# EAGLE library part RMLV0816BGSB-4S2#AA0 (library SamacSys_Parts)
The RMLV0816BGSB is a family of 8-Mbit static RAMs organized 524, 288-word 16-bit, fabricated by Renesass high-performance Advanced LPSRAM technologies. The RMLV0816BGSB has realized higher density, higher performance and low power consumption. The RMLV0816BGSB offers low power standby power dissipation;therefore, it is suitable for battery backup systems. It is offered in 44pin TSOP (II). Source: Datasheet <https://www.renesas.com/en/products/memory-logic/srams/low-power-srams/rmlv0816bgsb-8mb-advanced-lpsram-512k-word-16bit>
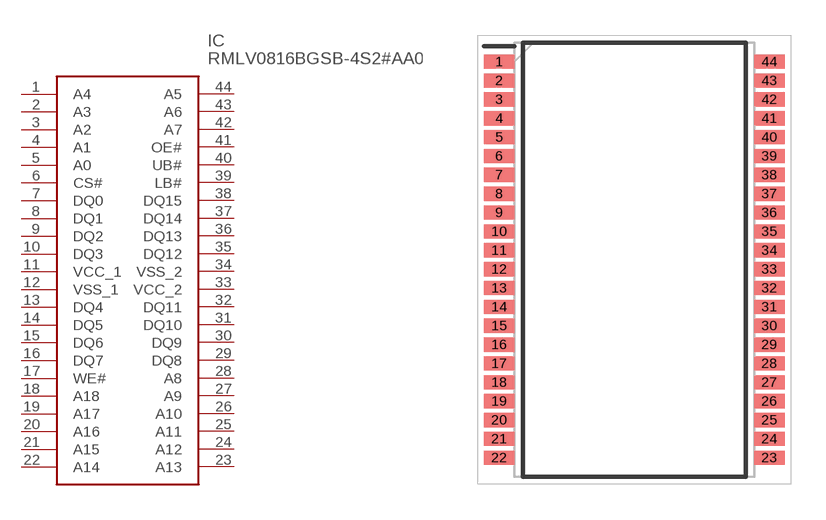
[diagram p20: symbol with the pads of SOP80P1176X120-44N; footprint SOP80P1176X120-44N]

Designator prefix IC

## RMLV0816BGSB-4S2#AA0 (DESCRIPTION: The RMLV0816BGSB is a family of 8-Mbit static RAMs organized 524, 288-word 16-bit, fabricated by Renesass high-performance Advanced LPSRAM technologies. The RMLV0816BGSB has realized higher density, higher performance and low power consumption. The RMLV0816BGSB offers low power standby power dissipation;therefore, it is suitable for battery backup systems. It is offered in 44pin TSOP (II).; HEIGHT: 1.2mm; MANUFACTURER_NAME: Renesas Electronics; MANUFACTURER_PART_NUMBER: RMLV0816BGSB-4S2#AA0; MOUSER_PART_NUMBER: 968-V0816BGSB4S2#AA0; MOUSER_PRICE-STOCK: https://www.mouser.co.uk/ProductDetail/Renesas-Electronics/RMLV0816BGSB-4S2AA0?qs=ZVKuL1Ob8AutqpGcuBnWxA%3D%3D)  [SOP80P1176X120-44N]
1  A4
2  A3
3  A2
4  A1
5  A0
6  CS#
7  DQ0
8  DQ1
9  DQ2
10  DQ3
11  VCC_1
12  VSS_1
13  DQ4
14  DQ5
15  DQ6
16  DQ7
17  WE#
18  A18
19  A17
20  A16
21  A15
22  A14
23  A13
24  A12
25  A11
26  A10
27  A9
28  A8
29  DQ8
30  DQ9
31  DQ10
32  DQ11
33  VCC_2
34  VSS_2
35  DQ12
36  DQ13
37  DQ14
38  DQ15
39  LB#
40  UB#
41  OE#
42  A7
43  A6
44  A5

## Footprint SOP80P1176X120-44N (pad centres in mm)
P-TSOP(2) 44-10.1618.41-0.80-1
smd 1.295 x 0.6: 1 -5.728,8.4; 2 -5.728,7.6; 3 -5.728,6.8; 4 -5.728,6; 5 -5.728,5.2; 6 -5.728,4.4; 7 -5.728,3.6; 8 -5.728,2.8; 9 -5.728,2; 10 -5.728,1.2; 11 -5.728,0.4; 12 -5.728,-0.4; 13 -5.728,-1.2; 14 -5.728,-2; 15 -5.728,-2.8; 16 -5.728,-3.6; 17 -5.728,-4.4; 18 -5.728,-5.2; 19 -5.728,-6; 20 -5.728,-6.8; 21 -5.728,-7.6; 22 -5.728,-8.4; 23 5.728,-8.4; 24 5.728,-7.6; 25 5.728,-6.8; 26 5.728,-6; 27 5.728,-5.2; 28 5.728,-4.4; 29 5.728,-3.6; 30 5.728,-2.8; 31 5.728,-2; 32 5.728,-1.2; 33 5.728,-0.4; 34 5.728,0.4; 35 5.728,1.2; 36 5.728,2; 37 5.728,2.8; 38 5.728,3.6; 39 5.728,4.4; 40 5.728,5.2; 41 5.728,6; 42 5.728,6.8; 43 5.728,7.6; 44 5.728,8.4